# EAGLE library part LTV-827 (library Photocoupler)
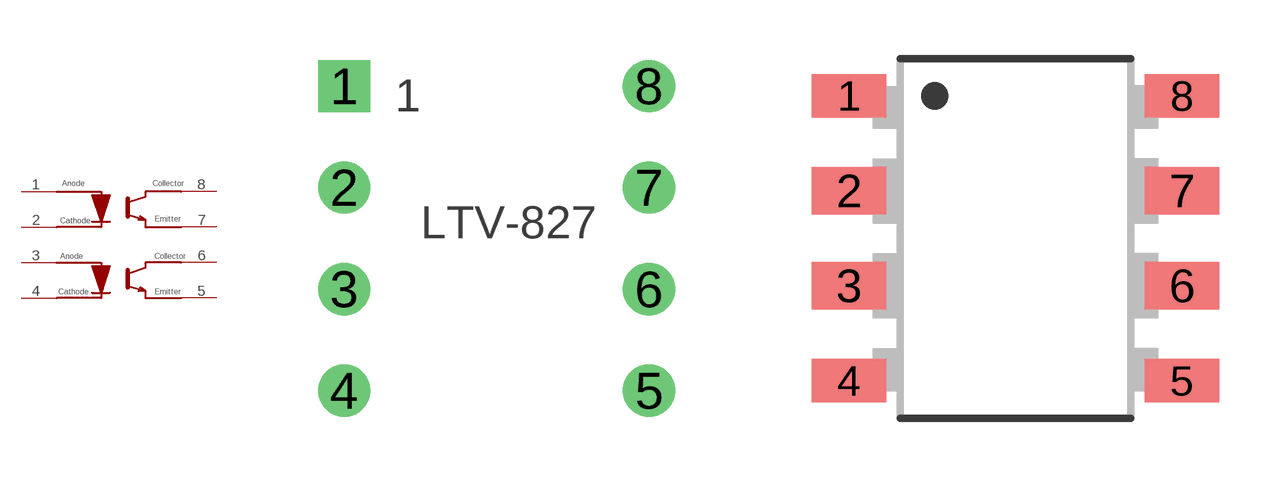
[diagram p0: symbol with the pads of LTV827; footprints LTV827, LTV827S]

Designator prefix -

## LTV-827  [LTV827]
1  1
2  2
3  3
4  4
5  5
6  6
7  7
8  8

## LTV-827SMD  [LTV827S]
Pads as for LTV827

## Footprint LTV827 (pad centres in mm)
drill 0.8 square: 1 -3.81,3.81
drill 0.8: 2 -3.81,1.27; 3 -3.81,-1.27; 4 -3.81,-3.81; 5 3.81,-3.81; 6 3.81,-1.27; 7 3.81,1.27; 8 3.81,3.81

## Footprint LTV827S (pad centres in mm)
smd 2 x 1.16: 1 -4.45,3.81; 4 -4.45,-3.81; 5 4.45,-3.81; 8 4.45,3.81
smd 2 x 1.27: 2 -4.45,1.27; 3 -4.45,-1.27; 6 4.45,-1.27; 7 4.45,1.27